# EAGLE library part BME680 (library PonLib)
- Pads for hand soldering !!! -
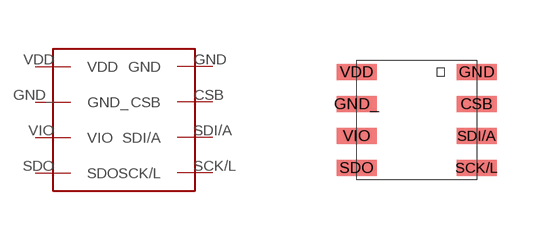
[diagram p34: symbol with the pads of BME680; footprint BME680]

Designator prefix -

## BME680  [BME680]
CSB  CSB
GND  GND
GND_  GND_
SCK/L  SCK/L
SDI/A  SDI/A
SDO  SDO
VDD  VDD
VIO  VIO

## Footprint BME680 (pad centres in mm)
- Pads for hand soldering !!! -
smd 1 x 0.4: CSB 1.5,0.4; GND 1.5,1.2; GND_ -1.5,0.4; SCK/L 1.5,-1.2; SDI/A 1.5,-0.4; SDO -1.5,-1.2; VDD -1.5,1.2; VIO -1.5,-0.4